# EAGLE library part DMC20481 (library ABI-LCD)
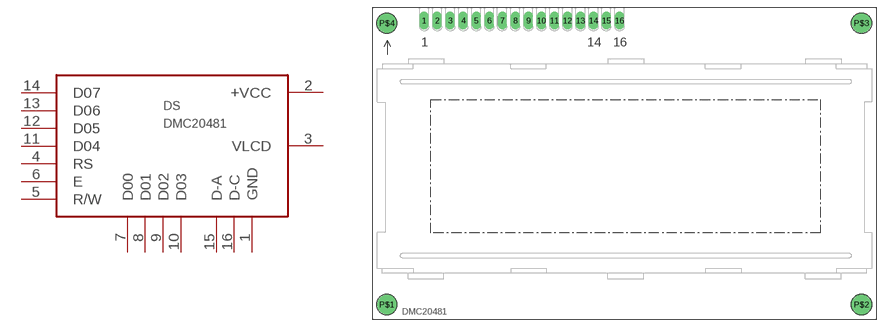
[diagram p0: symbol with the pads of DM20481; footprint DM20481]

Designator prefix DS

## DMC20481  [DM20481]
1  GND
2  +VCC
3  VLCD
4  RS
5  R/W
6  E
7  D00
8  D01
9  D02
10  D03
11  D04
12  D05
13  D06
14  D07
15  D-A
16  D-C

## Footprint DM20481 (pad centres in mm)
drill 1.016 pad 1.778 long: 1 -39.383,29.21; 2 -36.843,29.21; 3 -34.303,29.21; 4 -31.763,29.21; 5 -29.223,29.21; 6 -26.683,29.21; 7 -24.143,29.21; 8 -21.603,29.21; 9 -19.063,29.21; 10 -16.523,29.21; 11 -13.983,29.21; 12 -11.443,29.21; 13 -8.903,29.21; 14 -6.363,29.21; 15 -3.823,29.21; 16 -1.283,29.21
drill 2.54 pad 3.81 round: P$1 -46.672,-26.289; P$2 45.936,-26.289; P$3 45.936,28.715; P$4 -46.672,28.702